# EAGLE library part 7-SEG-3-DIGIT-CC (library HelaTronix - Diodes)
Common Cathode 3 Digit 0.28inch RED 7-Segment Display
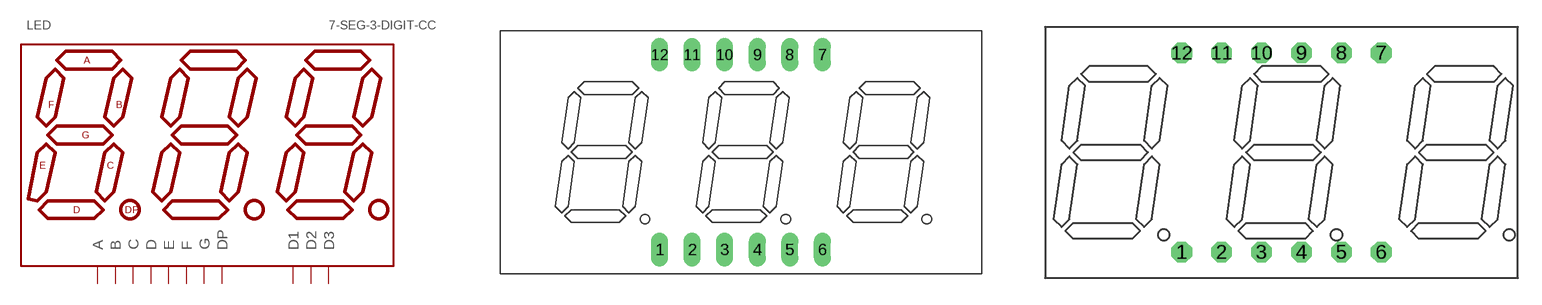
[diagram p0: symbol with the pads of 7-SEG-0.56INCH-3-DIGIT-CC; footprints 7-SEG-0.56INCH-3-DIGIT-CC, 7-SEG-0.4INCH-3-DIGIT-CC]

Designator prefix LED

## 7-SEG-3-DIGIT-CC0.56INCH  [7-SEG-0.56INCH-3-DIGIT-CC]
1  E
2  D
3  DP
4  C
5  G
7  B
8  D3
9  D2
10  F
11  A
12  D1

## 7-SEG-3-DIGIT-CC0.4INCH  [7-SEG-0.4INCH-3-DIGIT-CC]
Pads as for 7-SEG-0.56INCH-3-DIGIT-CC

## 7-SEG-3-DIGIT-CC0.28INCH (COLOR: RED; LCSC#: C122944; LCSC_LINK: https://lcsc.com/product-detail/Led-Segment-Display_ARKLED-Wuxi-ARK-Tech-Elec-SP420281N_C122944.html; MANUFACTURER: ARKLED(Wuxi ARK Tech Elec); MFR#: SP420281N)  [7-SEG-0.28INCH-3-DIGIT-CC]
Pads as for 7-SEG-0.56INCH-3-DIGIT-CC

## Footprint 7-SEG-0.56INCH-3-DIGIT-CC (pad centres in mm)
drill 0.8 long: 1 -6.35,-7.62; 2 -3.81,-7.62; 3 -1.27,-7.62; 4 1.27,-7.62; 5 3.81,-7.62; 6 6.35,-7.62; 7 6.35,7.62; 8 3.81,7.62; 9 1.27,7.62; 10 -1.27,7.62; 11 -3.81,7.62; 12 -6.35,7.62

## Footprint 7-SEG-0.4INCH-3-DIGIT-CC (pad centres in mm)
drill 0.8 octagon: 1 -6.35,-6.35; 2 -3.81,-6.35; 3 -1.27,-6.35; 4 1.27,-6.35; 5 3.81,-6.35; 6 6.35,-6.35; 7 6.35,6.35; 8 3.81,6.35; 9 1.27,6.35; 10 -1.27,6.35; 11 -3.81,6.35; 12 -6.35,6.35

## Footprint 7-SEG-0.28INCH-3-DIGIT-CC (pad centres in mm)
drill 0.6 octagon: 1 -6.35,-3.81; 2 -3.81,-3.81; 3 -1.27,-3.81; 4 1.27,-3.81; 5 3.81,-3.81; 6 6.35,-3.81; 7 6.35,3.81; 8 3.81,3.81; 9 1.27,3.81; 10 -1.27,3.81; 11 -3.81,3.81; 12 -6.35,3.81